# Altium footprint library Package_DIP.PcbLib: 281 footprints (part 4 of 18)
Each footprint in its own frame and in the unit in brackets; x right, y up, seen from the top. Pads: shape width x height; smd on the part's side, far side on the other; paste and mask are expansions set on the pad; w line width, h text height; cw(c..) or ccw(c..) is an arc to the next point about the centre after c.
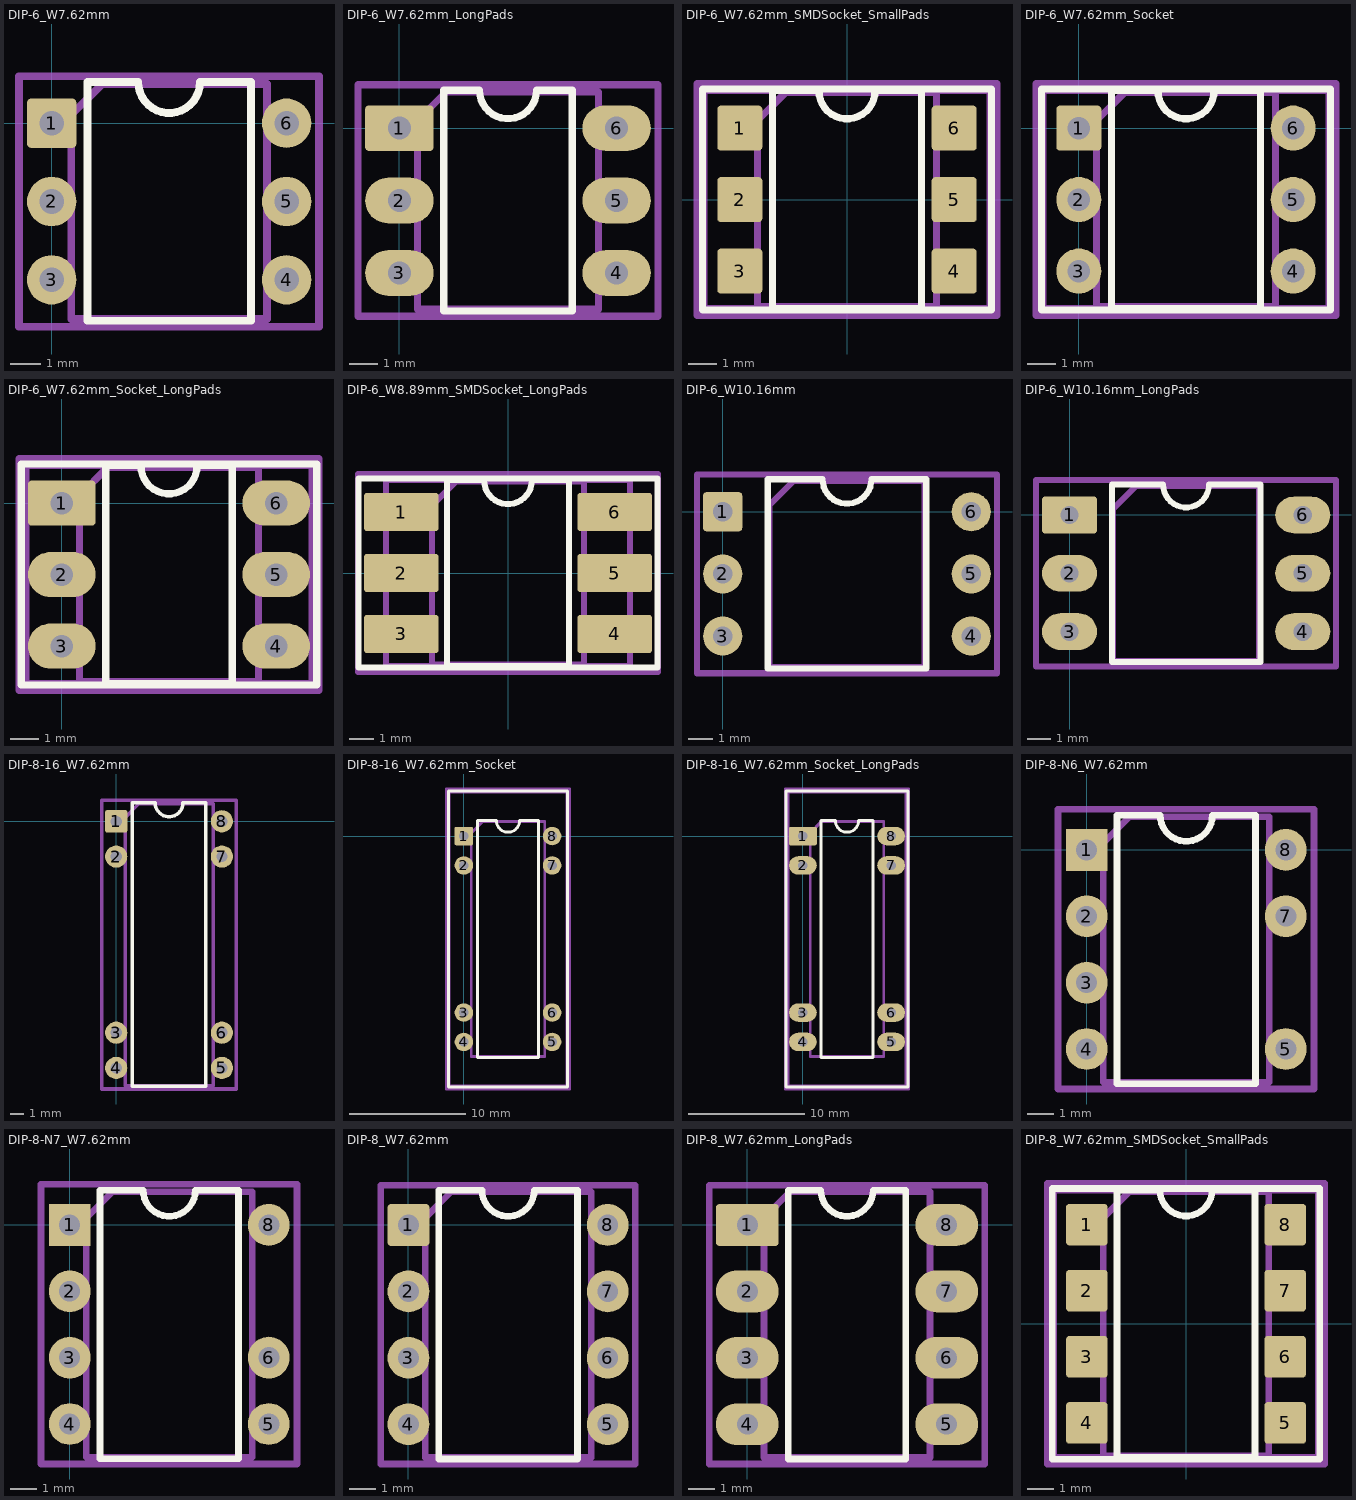
[diagram p3: the footprints below, top view; thin cyan lines are the x and y axes]

## DIP-6_W7.62mm [mm]
pads (6):
  rrect16% 1.6x1.6 hole 0.8: 1(0,0)
  round 1.6 hole 0.8: 2(0,-2.54) 3(0,-5.08) 4(7.62,-5.08) 5(7.62,-2.54) 6(7.62,0)
F.SilkS:
  lines w0.254: 1.16,-6.41 6.46,-6.41 6.46,1.33 4.81,1.33 cw(c3.81,1.33) 2.81,1.33 1.16,1.33 1.16,-6.41
Top Assembly:
  lines w0.254: 0.635,-6.35 6.985,-6.35 6.985,1.27 1.635,1.27 0.635,0.27 0.635,-6.35
  text "'.Designator'" at 4.65,-6.587 h1
Top Courtyard:
  lines w0.254: -1.06,-6.6 8.67,-6.6 8.67,1.52 -1.06,1.52 -1.06,-6.6
Top Designator:
  text ".Designator" at -3.813,-3.053 h1.52

## DIP-6_W7.62mm_LongPads [mm]
pads (6):
  rrect16% 2.4x1.6 hole 0.8: 1(0,0)
  rrect100% 2.4x1.6 hole 0.8: 2(0,-2.54) 3(0,-5.08) 4(7.62,-5.08) 5(7.62,-2.54) 6(7.62,0)
F.SilkS:
  lines w0.254: 1.56,-6.41 6.06,-6.41 6.06,1.33 4.81,1.33 cw(c3.81,1.33) 2.81,1.33 1.56,1.33 1.56,-6.41
Top Assembly:
  lines w0.254: 0.635,-6.35 6.985,-6.35 6.985,1.27 1.635,1.27 0.635,0.27 0.635,-6.35
  text "'.Designator'" at 4.65,-6.587 h1
Top Courtyard:
  lines w0.254: -1.45,-6.6 9.07,-6.6 9.07,1.52 -1.45,1.52 -1.45,-6.6
Top Designator:
  text ".Designator" at -3.808,-3.053 h1.52

## DIP-6_W7.62mm_SMDSocket_SmallPads [mm]
pads (6):
  rrect16% 1.6x1.6 smd: 1(-3.81,2.54) 2(-3.81,0) 3(-3.81,-2.54) 4(3.81,-2.54) 5(3.81,0) 6(3.81,2.54)
F.SilkS:
  lines w0.254: -5.14,-3.93 5.14,-3.93 5.14,3.93 -5.14,3.93 -5.14,-3.93 ; -2.65,-3.87 2.65,-3.87 2.65,3.87 1,3.87 cw(c0,3.87) -1,3.87 -2.65,3.87 -2.65,-3.87
Top Assembly:
  lines w0.254: -5.08,-3.87 5.08,-3.87 5.08,3.87 -5.08,3.87 -5.08,-3.87 ; -3.175,-3.81 3.175,-3.81 3.175,3.81 -2.175,3.81 -3.175,2.81 -3.175,-3.81
  text "'.Designator'" at 0.84,-4.047 h1
Top Courtyard:
  lines w0.254: -5.33,-4.12 5.33,-4.12 5.33,4.12 -5.33,4.12 -5.33,-4.12
Top Designator:
  text ".Designator" at -7.618,-0.508 h1.52

## DIP-6_W7.62mm_Socket [mm]
pads (6):
  rrect16% 1.6x1.6 hole 0.8: 1(0,0)
  round 1.6 hole 0.8: 2(0,-2.54) 3(0,-5.08) 4(7.62,-5.08) 5(7.62,-2.54) 6(7.62,0)
F.SilkS:
  lines w0.254: -1.33,-6.47 8.95,-6.47 8.95,1.39 -1.33,1.39 -1.33,-6.47 ; 1.16,-6.41 6.46,-6.41 6.46,1.33 4.81,1.33 cw(c3.81,1.33) 2.81,1.33 1.16,1.33 1.16,-6.41
Top Assembly:
  lines w0.254: -1.27,-6.41 8.89,-6.41 8.89,1.33 -1.27,1.33 -1.27,-6.41 ; 0.635,-6.35 6.985,-6.35 6.985,1.27 1.635,1.27 0.635,0.27 0.635,-6.35
  text "'.Designator'" at 4.65,-6.587 h1
Top Courtyard:
  lines w0.254: -1.52,-6.66 9.14,-6.66 9.14,1.58 -1.52,1.58 -1.52,-6.66
Top Designator:
  text ".Designator" at -3.808,-3.048 h1.52

## DIP-6_W7.62mm_Socket_LongPads [mm]
pads (6):
  rrect16% 2.4x1.6 hole 0.8: 1(0,0)
  rrect100% 2.4x1.6 hole 0.8: 2(0,-2.54) 3(0,-5.08) 4(7.62,-5.08) 5(7.62,-2.54) 6(7.62,0)
F.SilkS:
  lines w0.254: -1.44,-6.47 9.06,-6.47 9.06,1.39 -1.44,1.39 -1.44,-6.47 ; 1.56,-6.41 6.06,-6.41 6.06,1.33 4.81,1.33 cw(c3.81,1.33) 2.81,1.33 1.56,1.33 1.56,-6.41
Top Assembly:
  lines w0.254: -1.27,-6.41 8.89,-6.41 8.89,1.33 -1.27,1.33 -1.27,-6.41 ; 0.635,-6.35 6.985,-6.35 6.985,1.27 1.635,1.27 0.635,0.27 0.635,-6.35
  text "'.Designator'" at 4.65,-6.587 h1
Top Courtyard:
  lines w0.254: -1.52,-6.66 9.14,-6.66 9.14,1.58 -1.52,1.58 -1.52,-6.66
Top Designator:
  text ".Designator" at -3.808,-3.048 h1.52

## DIP-6_W8.89mm_SMDSocket_LongPads [mm]
pads (6):
  rrect16% 3.1x1.6 smd: 1(-4.445,2.54) 2(-4.445,0) 3(-4.445,-2.54) 4(4.445,-2.54) 5(4.445,0) 6(4.445,2.54)
F.SilkS:
  lines w0.254: -6.235,-3.93 6.235,-3.93 6.235,3.93 -6.235,3.93 -6.235,-3.93 ; -2.535,-3.87 2.535,-3.87 2.535,3.87 1,3.87 cw(c0,3.87) -1,3.87 -2.535,3.87 -2.535,-3.87
Top Assembly:
  lines w0.254: -5.08,-3.87 5.08,-3.87 5.08,3.87 -5.08,3.87 -5.08,-3.87 ; -3.175,-3.81 3.175,-3.81 3.175,3.81 -2.175,3.81 -3.175,2.81 -3.175,-3.81
  text "'.Designator'" at 0.84,-4.047 h1
Top Courtyard:
  lines w0.254: -6.25,-4.12 6.25,-4.12 6.25,4.12 -6.25,4.12 -6.25,-4.12
Top Designator:
  text ".Designator" at -7.618,-0.508 h1.52

## DIP-6_W10.16mm [mm]
pads (6):
  rrect16% 1.6x1.6 hole 0.8: 1(0,0)
  round 1.6 hole 0.8: 2(0,-2.54) 3(0,-5.08) 4(10.16,-5.08) 5(10.16,-2.54) 6(10.16,0)
F.SilkS:
  lines w0.254: 1.845,-6.41 8.315,-6.41 8.315,1.33 6.08,1.33 cw(c5.08,1.33) 4.08,1.33 1.845,1.33 1.845,-6.41
Top Assembly:
  lines w0.254: 1.905,-6.35 8.255,-6.35 8.255,1.27 2.905,1.27 1.905,0.27 1.905,-6.35
  text "'.Designator'" at 5.92,-6.587 h1
Top Courtyard:
  lines w0.254: -1.05,-6.6 11.21,-6.6 11.21,1.52 -1.05,1.52 -1.05,-6.6
Top Designator:
  text ".Designator" at -2.538,-3.053 h1.52

## DIP-6_W10.16mm_LongPads [mm]
pads (6):
  rrect16% 2.4x1.6 hole 0.8: 1(0,0)
  rrect100% 2.4x1.6 hole 0.8: 2(0,-2.54) 3(0,-5.08) 4(10.16,-5.08) 5(10.16,-2.54) 6(10.16,0)
F.SilkS:
  lines w0.254: 1.845,-6.41 8.315,-6.41 8.315,1.33 6.08,1.33 cw(c5.08,1.33) 4.08,1.33 1.845,1.33 1.845,-6.41
Top Assembly:
  lines w0.254: 1.905,-6.35 8.255,-6.35 8.255,1.27 2.905,1.27 1.905,0.27 1.905,-6.35
  text "'.Designator'" at 5.92,-6.587 h1
Top Courtyard:
  lines w0.254: -1.46,-6.6 11.61,-6.6 11.61,1.52 -1.46,1.52 -1.46,-6.6
Top Designator:
  text ".Designator" at -2.543,-3.053 h1.52

## DIP-8-16_W7.62mm [mm]
pads (8):
  rrect16% 1.6x1.6 hole 0.8: 1(0,0)
  round 1.6 hole 0.8: 2(0,-2.54) 3(0,-15.24) 4(0,-17.78) 5(7.62,-17.78) 6(7.62,-15.24) 7(7.62,-2.54) 8(7.62,0)
F.SilkS:
  lines w0.254: 1.16,-19.11 6.46,-19.11 6.46,1.33 4.81,1.33 cw(c3.81,1.33) 2.81,1.33 1.16,1.33 1.16,-19.11
Top Assembly:
  lines w0.254: 0.635,-19.05 6.985,-19.05 6.985,1.27 1.635,1.27 0.635,0.27 0.635,-19.05
  text "'.Designator'" at 4.65,-12.937 h1
Top Courtyard:
  lines w0.254: -1.06,-19.3 8.67,-19.3 8.67,1.52 -1.06,1.52 -1.06,-19.3
Top Designator:
  text ".Designator" at -3.813,-9.398 h1.52

## DIP-8-16_W7.62mm_Socket [mm]
pads (8):
  rrect16% 1.6x1.6 hole 0.8: 1(0,0)
  round 1.6 hole 0.8: 2(0,-2.54) 3(0,-15.24) 4(0,-17.78) 5(7.62,-17.78) 6(7.62,-15.24) 7(7.62,-2.54) 8(7.62,0)
F.SilkS:
  lines w0.254: -1.33,-21.65 8.95,-21.65 8.95,3.87 -1.33,3.87 -1.33,-21.65 ; 1.16,-19.11 6.46,-19.11 6.46,1.33 4.81,1.33 cw(c3.81,1.33) 2.81,1.33 1.16,1.33 1.16,-19.11
Top Assembly:
  lines w0.254: -1.27,-21.59 8.89,-21.59 8.89,3.81 -1.27,3.81 -1.27,-21.59 ; 0.635,-19.05 6.985,-19.05 6.985,1.27 1.635,1.27 0.635,0.27 0.635,-19.05
  text "'.Designator'" at 4.65,-12.937 h1
Top Courtyard:
  lines w0.254: -1.52,-21.84 9.14,-21.84 9.14,4.06 -1.52,4.06 -1.52,-21.84
Top Designator:
  text ".Designator" at -3.808,-9.398 h1.52

## DIP-8-16_W7.62mm_Socket_LongPads [mm]
pads (8):
  rrect16% 2.4x1.6 hole 0.8: 1(0,0)
  rrect100% 2.4x1.6 hole 0.8: 2(0,-2.54) 3(0,-15.24) 4(0,-17.78) 5(7.62,-17.78) 6(7.62,-15.24) 7(7.62,-2.54) 8(7.62,0)
F.SilkS:
  lines w0.254: -1.44,-21.65 9.06,-21.65 9.06,3.87 -1.44,3.87 -1.44,-21.65 ; 1.56,-19.11 6.06,-19.11 6.06,1.33 4.81,1.33 cw(c3.81,1.33) 2.81,1.33 1.56,1.33 1.56,-19.11
Top Assembly:
  lines w0.254: -1.27,-21.59 8.89,-21.59 8.89,3.81 -1.27,3.81 -1.27,-21.59 ; 0.635,-19.05 6.985,-19.05 6.985,1.27 1.635,1.27 0.635,0.27 0.635,-19.05
  text "'.Designator'" at 4.65,-12.937 h1
Top Courtyard:
  lines w0.254: -1.52,-21.84 9.14,-21.84 9.14,4.06 -1.52,4.06 -1.52,-21.84
Top Designator:
  text ".Designator" at -3.808,-9.398 h1.52

## DIP-8-N6_W7.62mm [mm]
pads (7):
  rect 1.6x1.6 hole 0.8: 1(0,0)
  rrect100% 1.6x1.6 hole 0.8: 2(0,-2.54) 3(0,-5.08) 4(0,-7.62) 5(7.62,-7.62) 7(7.62,-2.54) 8(7.62,0)
F.SilkS:
  lines w0.254: 1.16,-8.95 6.46,-8.95 6.46,1.33 4.81,1.33 cw(c3.81,1.33) 2.81,1.33 1.16,1.33 1.16,-8.95
Top Assembly:
  lines w0.254: 0.635,-8.89 6.985,-8.89 6.985,1.27 1.635,1.27 0.635,0.27 0.635,-8.89
  text "'.Designator'" at -0.237,-4.65 h1
Top Courtyard:
  lines w0.254: -1.1,-9.15 8.7,-9.15 8.7,1.55 -1.1,1.55 -1.1,-9.15
Top Designator:
  text ".Designator" at -3.818,-4.308 h1.52

## DIP-8-N7_W7.62mm [mm]
pads (7):
  rect 1.6x1.6 hole 0.8: 1(0,0)
  rrect100% 1.6x1.6 hole 0.8: 2(0,-2.54) 3(0,-5.08) 4(0,-7.62) 5(7.62,-7.62) 6(7.62,-5.08) 8(7.62,0)
F.SilkS:
  lines w0.254: 1.16,-8.95 6.46,-8.95 6.46,1.33 4.81,1.33 cw(c3.81,1.33) 2.81,1.33 1.16,1.33 1.16,-8.95
Top Assembly:
  lines w0.254: 0.635,-8.89 6.985,-8.89 6.985,1.27 1.635,1.27 0.635,0.27 0.635,-8.89
  text "'.Designator'" at -0.237,-4.65 h1
Top Courtyard:
  lines w0.254: -1.1,-9.15 8.7,-9.15 8.7,1.55 -1.1,1.55 -1.1,-9.15
Top Designator:
  text ".Designator" at -3.818,-4.308 h1.52

## DIP-8_W7.62mm [mm]
pads (8):
  rrect16% 1.6x1.6 hole 0.8: 1(0,0)
  round 1.6 hole 0.8: 2(0,-2.54) 3(0,-5.08) 4(0,-7.62) 5(7.62,-7.62) 6(7.62,-5.08) 7(7.62,-2.54) 8(7.62,0)
F.SilkS:
  lines w0.254: 1.16,-8.95 6.46,-8.95 6.46,1.33 4.81,1.33 cw(c3.81,1.33) 2.81,1.33 1.16,1.33 1.16,-8.95
Top Assembly:
  lines w0.254: 0.635,-8.89 6.985,-8.89 6.985,1.27 1.635,1.27 0.635,0.27 0.635,-8.89
  text "'.Designator'" at 4.65,-7.857 h1
Top Courtyard:
  lines w0.254: -1.06,-9.14 8.67,-9.14 8.67,1.52 -1.06,1.52 -1.06,-9.14
Top Designator:
  text ".Designator" at -3.813,-4.318 h1.52

## DIP-8_W7.62mm_LongPads [mm]
pads (8):
  rrect16% 2.4x1.6 hole 0.8: 1(0,0)
  rrect100% 2.4x1.6 hole 0.8: 2(0,-2.54) 3(0,-5.08) 4(0,-7.62) 5(7.62,-7.62) 6(7.62,-5.08) 7(7.62,-2.54) 8(7.62,0)
F.SilkS:
  lines w0.254: 1.56,-8.95 6.06,-8.95 6.06,1.33 4.81,1.33 cw(c3.81,1.33) 2.81,1.33 1.56,1.33 1.56,-8.95
Top Assembly:
  lines w0.254: 0.635,-8.89 6.985,-8.89 6.985,1.27 1.635,1.27 0.635,0.27 0.635,-8.89
  text "'.Designator'" at 4.65,-7.857 h1
Top Courtyard:
  lines w0.254: -1.45,-9.14 9.07,-9.14 9.07,1.52 -1.45,1.52 -1.45,-9.14
Top Designator:
  text ".Designator" at -3.808,-4.318 h1.52

## DIP-8_W7.62mm_SMDSocket_SmallPads [mm]
pads (8):
  rrect16% 1.6x1.6 smd: 1(-3.81,3.81) 2(-3.81,1.27) 3(-3.81,-1.27) 4(-3.81,-3.81) 5(3.81,-3.81) 6(3.81,-1.27) 7(3.81,1.27) 8(3.81,3.81)
F.SilkS:
  lines w0.254: -5.14,-5.2 5.14,-5.2 5.14,5.2 -5.14,5.2 -5.14,-5.2 ; -2.65,-5.14 2.65,-5.14 2.65,5.14 1,5.14 cw(c0,5.14) -1,5.14 -2.65,5.14 -2.65,-5.14
Top Assembly:
  lines w0.254: -5.08,-5.14 5.08,-5.14 5.08,5.14 -5.08,5.14 -5.08,-5.14 ; -3.175,-5.08 3.175,-5.08 3.175,5.08 -2.175,5.08 -3.175,4.08 -3.175,-5.08
  text "'.Designator'" at 0.84,-4.047 h1
Top Courtyard:
  lines w0.254: -5.33,-5.39 5.33,-5.39 5.33,5.39 -5.33,5.39 -5.33,-5.39
Top Designator:
  text ".Designator" at -7.618,-0.508 h1.52